# Altium schematic symbol library BBCMP-P4.SchLib: 1 symbol
Pins are listed as number, name and electrical type; pins without a type are passive.

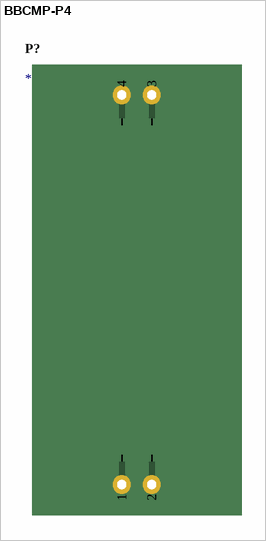
[diagram p0: symbol BBCMP-P4]

## BBCMP-P4
designator P?  (no BOM)
pins: 1, 2, 3, 4